# Altium schematic symbol library 93AA66C.SchLib: 1 symbol
Pins are listed as number, name and electrical type; pins without a type are passive.

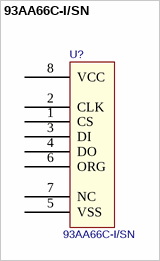
[diagram p0: symbol 93AA66C-I/SN]

## 93AA66C-I/SN
designator U?
Mfr_Name: Microchip; Value: 93AA66C-I/SN; Copyright: Copyright (C) 2022 Ultra Librarian. All rights reserved.; Manufacturer_Part_Number: 93AA66C-I/SN
footprint SOIC8-N_MC_MCH
pins: 1 CS, 2 CLK, 3 DI, 4 DO, 5 VSS, 6 ORG, 7 NC, 8 VCC